# Altium integrated library Speak.IntLib: 2 symbols
Pins are listed as number, name and electrical type; pins without a type are passive.

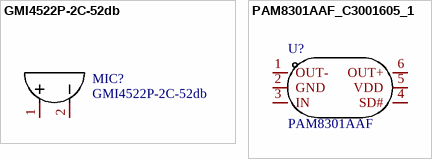
[diagram p0: symbols GMI4522P-2C-52db to PAM8301AAF_C3001605_1]

## GMI4522P-2C-52db
designator MIC?
Manufacturer: INGHAi(赢海); Add into BOM: yes; Symbol: GMI4522P-2C-52DB; Device: GMI4522P-2C-52db; LCSC Part Name: 全指向双电容φ4.5*2.2mm 1.5V-10V 灵敏度-52dB 低阻抗; Supplier Part: C233316; Manufacturer Part: GMI4522P-2C-52db; Supplier Footprint: 插件; JLCPCB Part Class: Extended Part; Datasheet: https://atta.szlcsc.com/upload/public/pdf/source/20200113/C233316_202621E9ED1821B3C26EEDBDAEAB82C1.pdf; Supplier: LCSC; Convert to PCB: yes; Name: GMI4522P-2C-52db
footprint MIC-TH_BD4.5-P1.60-D0.40-L-FD
3D model MIC-TH_BD4.5-P1.60-D0.40-L-FD
pins: 1, 2

## PAM8301AAF_C3001605_1
designator U?, comment PAM8301AAF
功放类型:-;扬声器通道数:1通道;输出功率:1.5Wx1@8Ω;; Manufacturer: DIODES(美台); Symbol: PAM8301AAF_C3001605; Add into BOM: yes; Speaker Channels: 1通道; Supply Voltage: 2.5V~5.5V; Device: PAM8301AAF_C3001605; LCSC Part Name: PAM8301AAF; Supplier Part: C3001605; Manufacturer Part: PAM8301AAF; Supplier Footprint: SOT-23-6; JLCPCB Part Class: Extended Part; Datasheet: https://atta.szlcsc.com/upload/public/pdf/source/20230201/943C27DBE42A65FDC71DD28335E913D7.pdf; Supplier: LCSC; Convert to PCB: yes; Type of Power Amplifier: -; Output Power: 1.5Wx1@8Ω; Operating Temperature: -40℃~+85℃; Name: PAM8301AAF
footprint SOT-23-6_L2.9-W1.6-P0.95-LS2.8-BR
3D model SOT-23-6_L2.9-W1.6-H1.5-LS2.8-P0.95
pins: 1 OUT-, 2 GND, 3 IN, 4 SD#, 5 VDD, 6 OUT+